# EAGLE library part 64R-JMCS-G (library jst-jmc)
0.5mm Pitch SMT Board to Board Connector Source: http://www.jst-mfg.com/product/pdf/jpn/JMC.pdf http://www.jst-mfg.com/product/detail.php?series=147
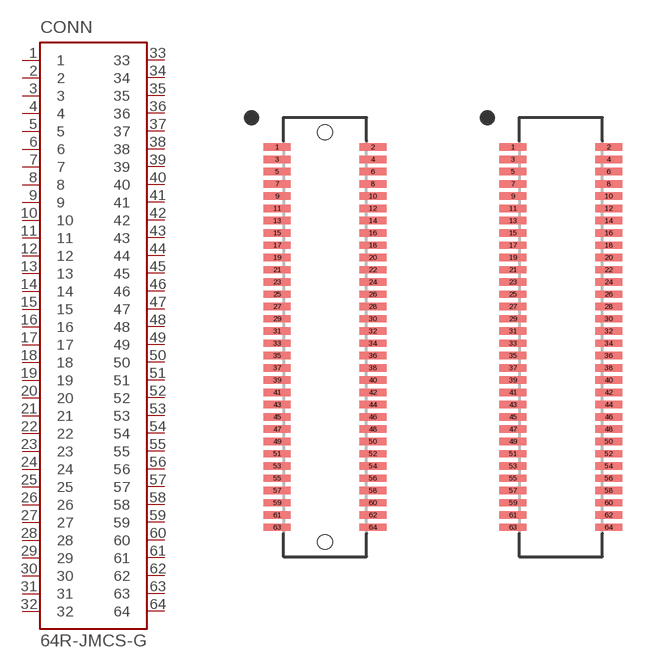
[diagram p21: symbol with the pads of 64R-JMCS-G-B-TF(S); footprints 64R-JMCS-G-B-TF(S), 64R-JMCS-G-TF(S)]

Designator prefix CONN

## 64R-JMCS-G-B-TE(S)  [64R-JMCS-G-B-TF(S)]
1  1
2  2
3  3
4  4
5  5
6  6
7  7
8  8
9  9
10  10
11  11
12  12
13  13
14  14
15  15
16  16
17  17
18  18
19  19
20  20
21  21
22  22
23  23
24  24
25  25
26  26
27  27
28  28
29  29
30  30
31  31
32  32
33  33
34  34
35  35
36  36
37  37
38  38
39  39
40  40
41  41
42  42
43  43
44  44
45  45
46  46
47  47
48  48
49  49
50  50
51  51
52  52
53  53
54  54
55  55
56  56
57  57
58  58
59  59
60  60
61  61
62  62
63  63
64  64

## 64R-JMCS-G-TE(S)  [64R-JMCS-G-TF(S)]
Pads as for 64R-JMCS-G-B-TF(S)

## Footprint 64R-JMCS-G-B-TF(S) (pad centres in mm)
smd 1.1 x 0.3: 1 -1.95,7.75; 2 1.95,7.75; 3 -1.95,7.25; 4 1.95,7.25; 5 -1.95,6.75; 6 1.95,6.75; 7 -1.95,6.25; 8 1.95,6.25; 9 -1.95,5.75; 10 1.95,5.75; 11 -1.95,5.25; 12 1.95,5.25; 13 -1.95,4.75; 14 1.95,4.75; 15 -1.95,4.25; 16 1.95,4.25; 17 -1.95,3.75; 18 1.95,3.75; 19 -1.95,3.25; 20 1.95,3.25; 21 -1.95,2.75; 22 1.95,2.75; 23 -1.95,2.25; 24 1.95,2.25; 25 -1.95,1.75; 26 1.95,1.75; 27 -1.95,1.25; 28 1.95,1.25; 29 -1.95,0.75; 30 1.95,0.75; 31 -1.95,0.25; 32 1.95,0.25; 33 -1.95,-0.25; 34 1.95,-0.25; 35 -1.95,-0.75; 36 1.95,-0.75; 37 -1.95,-1.25; 38 1.95,-1.25; 39 -1.95,-1.75; 40 1.95,-1.75; 41 -1.95,-2.25; 42 1.95,-2.25; 43 -1.95,-2.75; 44 1.95,-2.75; 45 -1.95,-3.25; 46 1.95,-3.25; 47 -1.95,-3.75; 48 1.95,-3.75; 49 -1.95,-4.25; 50 1.95,-4.25; 51 -1.95,-4.75; 52 1.95,-4.75; 53 -1.95,-5.25; 54 1.95,-5.25; 55 -1.95,-5.75; 56 1.95,-5.75; 57 -1.95,-6.25; 58 1.95,-6.25; 59 -1.95,-6.75; 60 1.95,-6.75; 61 -1.95,-7.25; 62 1.95,-7.25; 63 -1.95,-7.75; 64 1.95,-7.75
hole 0.6 at 0,8.35
hole 0.6 at 0,-8.35

## Footprint 64R-JMCS-G-TF(S) (pad centres in mm)
smd 1.1 x 0.3: 1 -1.95,7.75; 2 1.95,7.75; 3 -1.95,7.25; 4 1.95,7.25; 5 -1.95,6.75; 6 1.95,6.75; 7 -1.95,6.25; 8 1.95,6.25; 9 -1.95,5.75; 10 1.95,5.75; 11 -1.95,5.25; 12 1.95,5.25; 13 -1.95,4.75; 14 1.95,4.75; 15 -1.95,4.25; 16 1.95,4.25; 17 -1.95,3.75; 18 1.95,3.75; 19 -1.95,3.25; 20 1.95,3.25; 21 -1.95,2.75; 22 1.95,2.75; 23 -1.95,2.25; 24 1.95,2.25; 25 -1.95,1.75; 26 1.95,1.75; 27 -1.95,1.25; 28 1.95,1.25; 29 -1.95,0.75; 30 1.95,0.75; 31 -1.95,0.25; 32 1.95,0.25; 33 -1.95,-0.25; 34 1.95,-0.25; 35 -1.95,-0.75; 36 1.95,-0.75; 37 -1.95,-1.25; 38 1.95,-1.25; 39 -1.95,-1.75; 40 1.95,-1.75; 41 -1.95,-2.25; 42 1.95,-2.25; 43 -1.95,-2.75; 44 1.95,-2.75; 45 -1.95,-3.25; 46 1.95,-3.25; 47 -1.95,-3.75; 48 1.95,-3.75; 49 -1.95,-4.25; 50 1.95,-4.25; 51 -1.95,-4.75; 52 1.95,-4.75; 53 -1.95,-5.25; 54 1.95,-5.25; 55 -1.95,-5.75; 56 1.95,-5.75; 57 -1.95,-6.25; 58 1.95,-6.25; 59 -1.95,-6.75; 60 1.95,-6.75; 61 -1.95,-7.25; 62 1.95,-7.25; 63 -1.95,-7.75; 64 1.95,-7.75